# Altium schematic symbol library SCH - Interface - EHT - RJHSE-5381.Schlib: 1 symbol
Pins are listed as number, name and electrical type; pins without a type are passive.

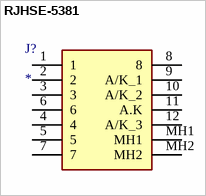
[diagram p0: symbol RJHSE-5381]

## RJHSE-5381
designator J?
Connector
pins: 1, 2, 3, 4, 5, 6, 7, 8, 9 A/K_1, 10 A/K_2, 11 A.K, 12 A/K_3, MH1, MH2